# EAGLE library part JST-08 (library con-jst-gh)
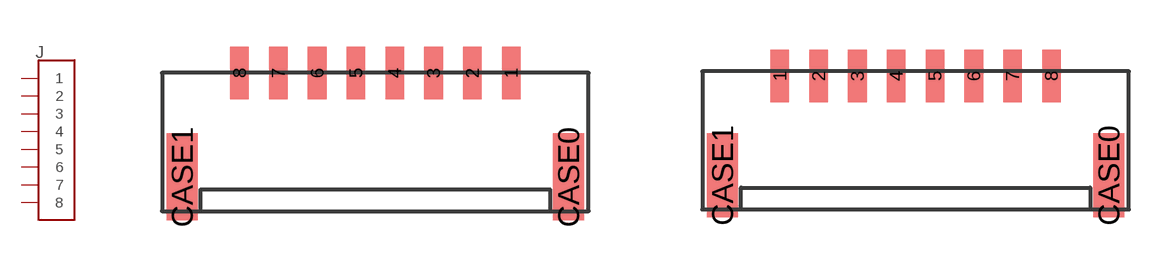
[diagram p3: symbol with the pads of BM08B-GHS; footprints BM08B-GHS, SM08B-GHS]

Designator prefix J

## JST-08TOP  [BM08B-GHS]
1  1
2  2
3  3
4  4
5  5
6  6
7  7
8  8

## JST-08SIDE  [SM08B-GHS]
Pads as for BM08B-GHS

## Footprint BM08B-GHS (pad centres in mm)
smd 0.6 x 1.7: 1 4.375,2.5; 2 3.125,2.5; 3 1.875,2.5; 4 0.625,2.5; 5 -0.625,2.5; 6 -1.875,2.5; 7 -3.125,2.5; 8 -4.375,2.5
smd 1 x 2.8: CASE0 6.225,-0.85; CASE1 -6.225,-0.85

## Footprint SM08B-GHS (pad centres in mm)
smd 0.6 x 1.7: 1 -4.375,2.05; 2 -3.125,2.05; 3 -1.875,2.05; 4 -0.625,2.05; 5 0.625,2.05; 6 1.875,2.05; 7 3.125,2.05; 8 4.375,2.05
smd 1 x 2.7: CASE0 6.225,-1.15; CASE1 -6.225,-1.15